# Altium footprint library MODULE_E32-433T20S.PcbLib: 1 footprints
Each footprint in its own frame and in the unit in brackets; x right, y up, seen from the top. Pads: shape width x height; smd on the part's side, far side on the other; paste and mask are expansions set on the pad; w line width, h text height; cw(c..) or ccw(c..) is an arc to the next point about the centre after c.
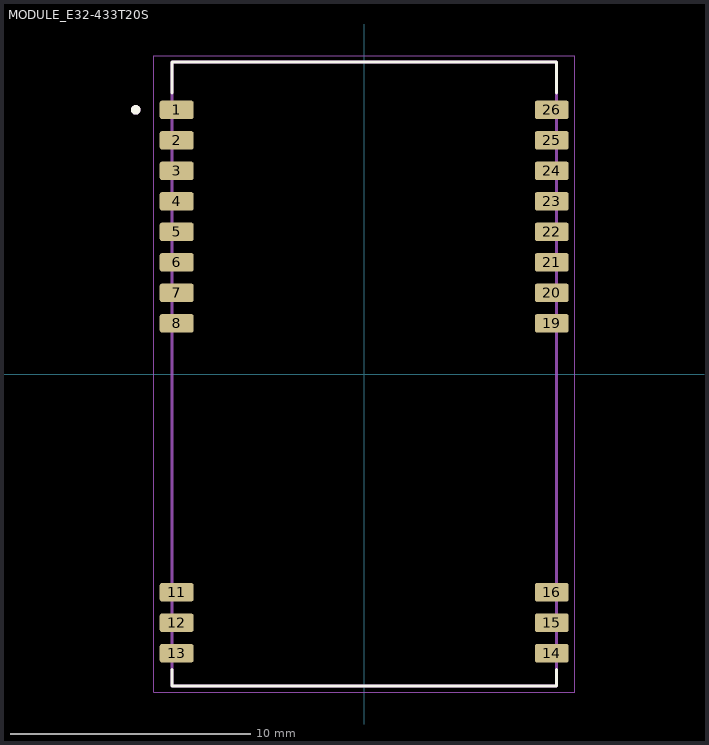
[diagram p0: the footprint, top view; thin cyan lines are the x and y axes]

## MODULE_E32-433T20S [mm]
height 3.25
pads (22):
  rrect25% 1.41x0.77 smd: 1(-7.81,11) 2(-7.81,9.73) 3(-7.81,8.46) 4(-7.81,7.19) 5(-7.81,5.92) 6(-7.81,4.65) 7(-7.81,3.38) 8(-7.81,2.11) 11(-7.81,-9.09) 12(-7.81,-10.36) 13(-7.81,-11.63) 14(7.81,-11.63) 15(7.81,-10.36) 16(7.81,-9.09) 19(7.81,2.11) 20(7.81,3.38) 21(7.81,4.65) 22(7.81,5.92) 23(7.81,7.19) 24(7.81,8.46) 25(7.81,9.73) 26(7.81,11)
Top Overlay:
  circle w0.2: c-9.515,11 r0.1
  lines w0.127: -8,-12.305 -8,-13 8,-13 8,-12.305 ; -8,11.705 -8,13 8,13 8,11.705
Mechanical 13:
  circle w0.2: c-9.515,11 r0.1
  lines w0.127: -8,-13 -8,13 8,13 8,-13 -8,-13
Mechanical 15:
  lines w0.05: -8.765,-13.25 8.765,-13.25 8.765,13.25 -8.765,13.25 -8.765,-13.25
3D body "step_temp.STEP": height 3.25, standoff 0, extent -8,-13 8,13